# Altium footprint library AG.Connectors.PcbLib: 30 footprints (part 1 of 2)
Each footprint in its own frame and in the unit in brackets; x right, y up, seen from the top. Pads: shape width x height; smd on the part's side, far side on the other; paste and mask are expansions set on the pad; w line width, h text height; cw(c..) or ccw(c..) is an arc to the next point about the centre after c.
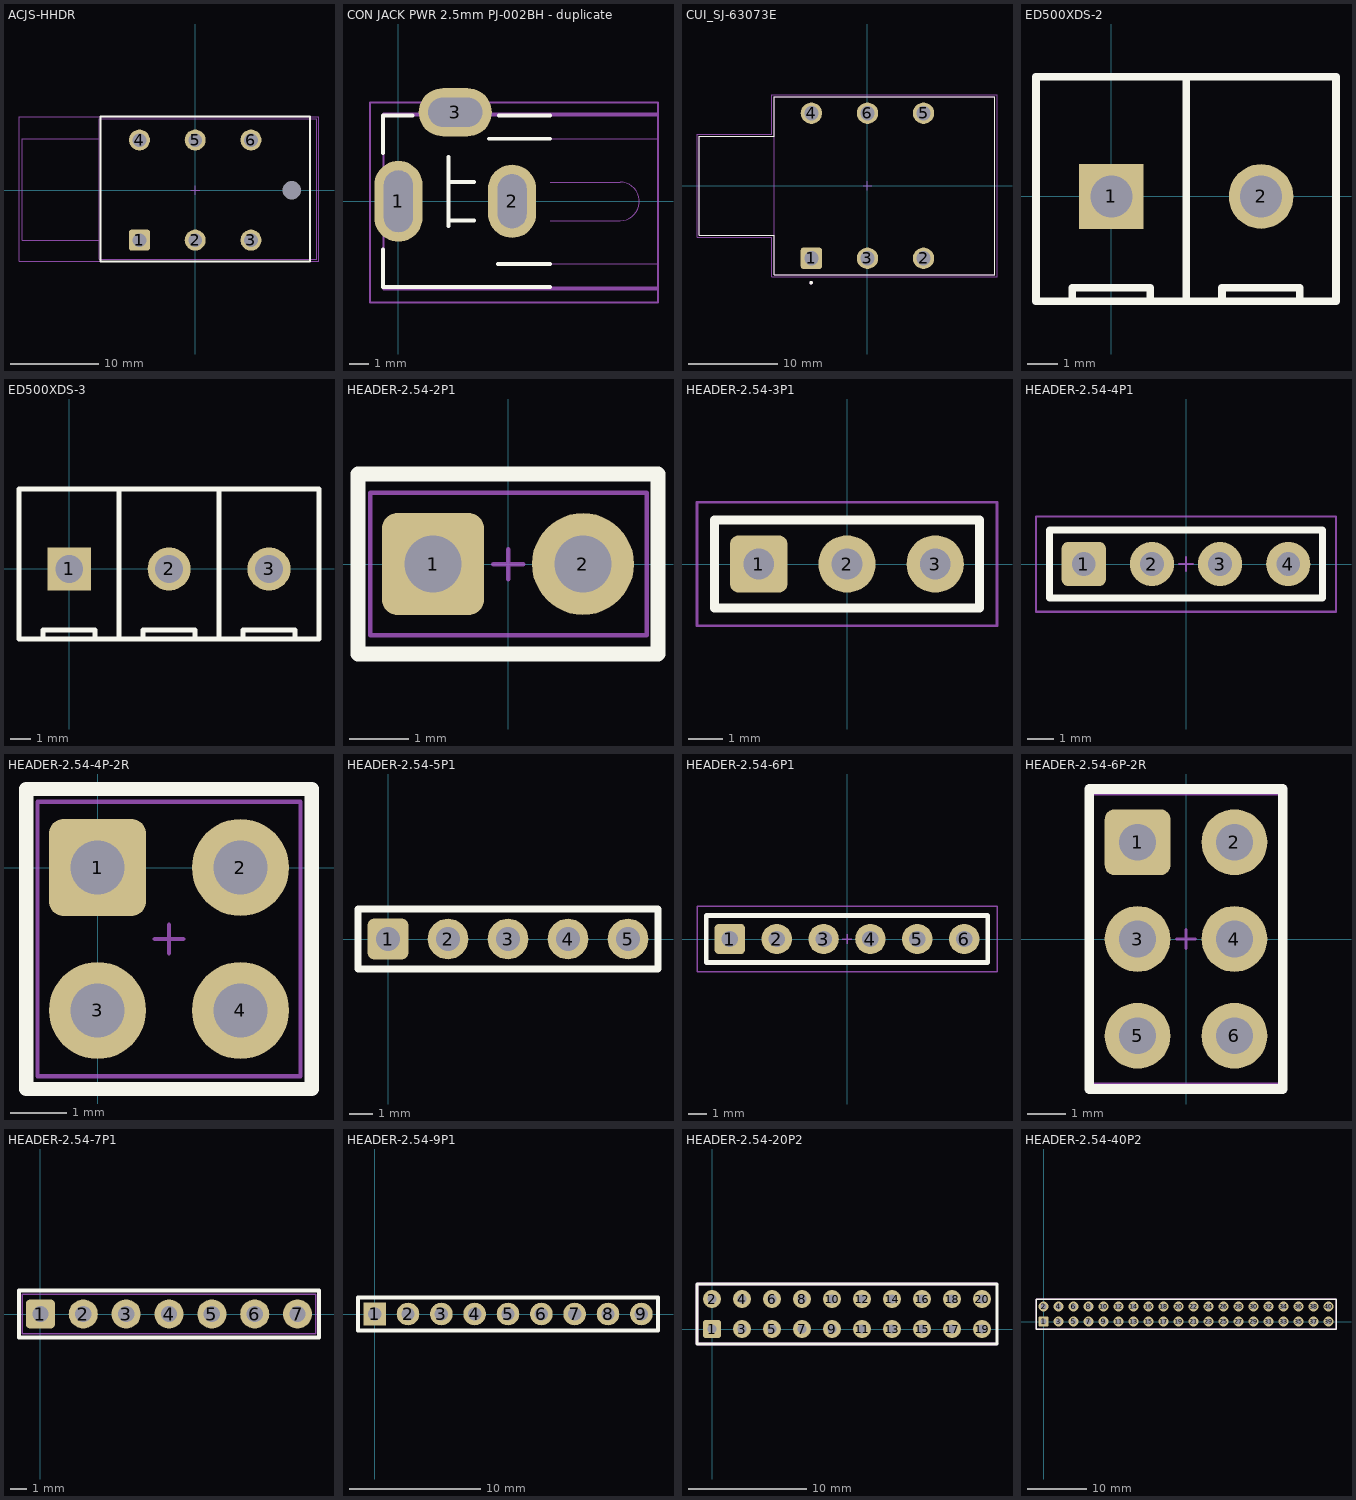
[diagram p0: the footprints below, top view; thin cyan lines are the x and y axes]

## ACJS-HHDR [mm] "1/4\" Stereo Jack PCB Receptacle"
height 12.7
pads (7):
  rrect25% 2.4x2.4 hole 1.55: 1(-6.35,-5.7)
  round 2.4 hole 1.55: 2(0,-5.7) 3(6.35,-5.7) 4(-6.35,5.7) 5(0,5.7) 6(6.35,5.7)
  round 1.524 hole 2.1 unplated: ""(10.98,0)
Top Overlay:
  lines w0.254: -10.795,-8.128 13.081,-8.128 13.081,8.382 -10.795,8.382 -10.795,-8.128
Mechanical 13:
  lines w0.127: -10.922,-5.7 -19.685,-5.7 -19.685,5.842 -10.922,5.842 ; -10.922,-7.874 13.829,-7.874 13.829,8.128 -10.922,8.128 -10.922,-7.874
Mechanical 15:
  lines w0.05: -0.5,0 0.5,0 ; 0,-0.5 0,0.5
  lines w0.076: -20.066,-8.128 -20.066,8.382 14.097,8.382 14.097,-8.128 -20.066,-8.128
3D body "ACJS-HHDR.stp": height 12.8, standoff -4.4, extent -19.671,-7.874 13.829,8.126

## CON JACK PWR 2.5mm PJ-002BH - duplicate [mil] "Connector, Power Jack, 2.5 mm x 5.1 mm, 24 V, 5 A, Right Angle, TH"
height 433.07
pads (3):
  oval 100x167.95 hole 60 slot 127.95 at 90 deg: 1(0,0)
  oval 100x152.2 hole 60 slot 112.2 at 90 deg: 2(236,0)
  oval 152.2x100 hole 60 slot 112.2 at 0 deg: 3(118,185)
Top Overlay:
  lines w8: -32,-100 -32,-178 314.96,-178 ; -32,100 -32,178 29,178 ; 104,-51.18 104,92 ; 104,-40 157,-40 ; 104,40 157,40 ; 188,130 314.96,130 ; 206.69,-130 314.96,-130 ; 209,178 314.96,178
Mechanical 11:
  lines w3.94: -31,-179 -31,178 539,178 539,-179 -31,-179
Mechanical 13:
  lines w1: 314.96,-178 539,-178 539,178 314.96,178 ; 314.96,-130 539,-130 ; 314.96,-40 460.11,-40 ccw(c460.11,0) 460.11,40 314.96,40 ; 314.96,130 539,130
  lines w3.94: -31.35,-183 -31.35,182 539,182 539,-183 -31.35,-183
Mechanical 15:
  lines w3.94: -15,0 15,0 ; 0,-15 0,15 ; -59,-210 539,-210 539,205 -59,205 -59,-210
3D body "PJ-002AH.STEP": height 435.04, standoff -135.83, extent -29.46,-177.08 537.46,193

## CUI_SJ-63073E [mm] "1/4\" Stereo Jack PCB Receptacle"
height 15.5
pads (6):
  rrect25% 2.4x2.4 hole 1.6: 1(-6.3,-8.15)
  round 2.4 hole 1.6: 2(6.3,-8.15) 3(0,-8.15) 4(-6.3,8.15) 5(6.3,8.15) 6(0,8.15)
Top Overlay:
  circle w0.2: c-6.34,-10.88 r0.1
  lines w0.127: -18.9,-5.556 -10.5,-5.556 -10.5,-10 14.3,-10 14.3,10 -10.5,10 -10.5,5.556 -18.9,5.556 -18.9,-5.556
Mechanical 13:
  circle w0.2: c-6.34,-10.88 r0.1
  lines w0.127: -10.5,-5.556 -10.5,5.556 ; -10.5,-5.556 -10.5,-5.6 -10.5,-10 14.3,-10 14.3,10 -10.5,10 -10.5,5.6 -10.5,5.556 ; -10.5,-5.556 -18.9,-5.556 -18.9,5.556 -10.5,5.556
Mechanical 15:
  lines w0.05: -0.5,0 0.5,0 ; 0,-0.5 0,0.5 ; -19.15,-5.806 -10.75,-5.806 -10.75,-10.25 14.55,-10.25 14.55,10.25 -10.75,10.25 -10.75,5.806 -19.15,5.806 -19.15,-5.806
3D body "CUI_DEVICES_SJ-63073E.step": height 15.74, standoff -3.75, extent -18.873,-10.033 14.327,9.967

## ED500XDS-2 [mil]
height 395
pads (2):
  rect 85x85 hole 55: 1(0,0)
  round 85 hole 55: 2(196.85,0)
Top Overlay:
  lines w10: -51.36,-137.16 -51.36,-120 51,-120 51,-137.8 ; 98.43,-137.8 98.43,157.16 ; 145.47,-137.17 145.47,-120 247.83,-120 247.83,-137.78 ; 295.28,-137.8 -99,-137.8 -99,157.48 295.28,157.48 295.28,-137.09

## ED500XDS-3 [mil]
height 394
pads (3):
  rect 85x85 hole 55: 1(0,0)
  round 85 hole 55: 2(196.85,0) 3(393.7,0)
Top Overlay:
  lines w10: -51.36,-137.16 -51.36,-120 51,-120 51,-137.8 ; 98.43,-137.8 98.43,157.16 ; 145.47,-137.17 145.47,-120 247.83,-120 247.83,-137.78 ; 295.28,-137.8 295.28,157.48 ; 342.32,-137.17 342.32,-120 444.68,-120 444.68,-137.78 ; 492.13,-137.8 -99,-137.8 -99,157.48 492.13,157.48 492.13,-137.09
3D body: height 395, standoff 1, extent -99,-137.8 492.13,157.48

## HEADER-2.54-2P1 [mil] "Pin Header Single Row 2 Positions Pitch 2.54 mm"
pads (2):
  rrect30% 68x68 hole 38: 1(-50,0)
  round 68 hole 38: 2(50,0)
Top Overlay:
  lines w10: -100,-60 -100,60 100,60 100,-60 -100,-60
Mechanical 13:
  lines w3: -91.79,-47.43 92.46,-47.43 92.46,47.45 -91.79,47.45 -91.79,-47.43
Mechanical 15:
  lines w2: -100,-60 -100,60 100,60 100,-60 -100,-60
  lines w3: -10,0 10,0 ; 0,-10 0,10
3D body "AMPH_77311-y18-02_asm.stp": height 330.42, standoff -122.33, extent -91.79,-47.43 92.46,47.45

## HEADER-2.54-3P1 [mil] "Pin Header Single Row 3 Positions Pitch 2.54 mm"
pads (3):
  rrect30% 65x65 hole 35: 1(-100,0)
  round 65 hole 35: 2(0,0) 3(100,0)
Top Overlay:
  lines w10: -149.99,-49.99 150.01,-49.99 150.01,50.01 -149.99,50.01 -149.99,-49.99
Mechanical 13:
  lines w3: -149.99,-49.99 150.01,-49.99 150.01,50.01 -149.99,50.01 -149.99,-49.99
Mechanical 15:
  lines w3: -170,-70 170,-70 170,70 -170,70 -170,-70
3D body "1x3 TH Pitch 2.54mm.STEP": height 362.2, standoff -137.8, extent -149.99,-49.99 150.01,50.01

## HEADER-2.54-4P1 [mil] "Pin Header Single Row 4 Positions Pitch 2.54 mm"
pads (4):
  rrect30% 65x65 hole 35: 1(-150,0)
  round 65 hole 35: 2(-50,0) 3(50,0) 4(150,0)
Top Overlay:
  lines w10: -200,-50 -200,50 200,50 200,-50 -200,-50
Mechanical 13:
  lines w3: -199.99,-49.99 -199.99,50.01 200.01,50.01 200.01,-49.99 -199.99,-49.99
Mechanical 15:
  lines w3: -10,0 10,0 ; 0,-10 0,10 ; -220,-70 -220,70 220,70 220,-70 -220,-70
3D body "User Library-1x4 TH Pitch 2_54mm.STEP": height 362.2, standoff -137.8, extent -199.99,-49.99 200.01,50.01

## HEADER-2.54-4P-2R [mil] "Rectangular Header Male Pins Double Row 4 Positions Pitch 2.54 mm"
height 276
pads (4):
  rrect30% 68x68 hole 38: 1(0,0)
  round 68 hole 38: 2(100,0) 3(0,-100) 4(100,-100)
Top Overlay:
  lines w10: -50,-155 -50,-150 -50,55 150,55 150,-155 -50,-155
Mechanical 13:
  lines w3: -41.99,-145.99 142.01,-145.99 142.01,46.01 -41.99,46.01 -41.99,-145.99
Mechanical 15:
  lines w3: 40,-50 60,-50 ; 50,-60 50,-40 ; -50,-155 150,-155 150,55 -50,55 -50,-155
3D body "104352-2.stp": height 322, standoff -118, extent -41.99,-145.99 142.01,46.01

## HEADER-2.54-5P1 [mil] "Pin Header Single Row 5 Positions Pitch 2.54 mm"
pads (5):
  rrect30% 68x68 hole 40: 1(0,0)
  round 68 hole 40: 2(100,0) 3(200,0) 4(300,0) 5(400,0)
Top Overlay:
  lines w12: 30,-50 -50,-50 ; -50,-50 -50,50 450,50 450,-50 -50,-50

## HEADER-2.54-6P1 [mil] "Pin Header Single Row 6 Positions Pitch 2.54 mm"
pads (6):
  rrect30% 65x65 hole 35: 1(-250,0)
  round 65 hole 35: 2(-150,0) 3(-50,0) 4(50,0) 5(150,0) 6(250,0)
Top Overlay:
  lines w10: -300,-50 300,-50 300,50 -300,50 -300,-50
Mechanical 13:
  lines w3: -300,-50 300,-50 300,50 -300,50 -300,-50
Mechanical 15:
  lines w3: -10,0 10,0 ; 0,-10 0,10 ; -320,-70 320,-70 320,70 -320,70 -320,-70
3D body "User Library-1x6 TH Pitch 2_54mm.STEP": height 362.2, standoff -137.8, extent -299.99,-49.99 300.01,50.01

## HEADER-2.54-6P-2R [mil] "Rectangular Header Male Pins 4 Positions 2 Rows Pitch 2.54 mm"
height 276
pads (6):
  rrect30% 68x68 hole 38: 1(-50,100)
  round 68 hole 38: 2(50,100) 3(-50,0) 4(50,0) 5(-50,-100) 6(50,-100)
Top Overlay:
  lines w10: -100,-155 -100,-50 -100,155 100,155 100,-155 -100,-155
Mechanical 13:
  lines w3: -100,-149.99 -100,150.01 100,150.01 100,-149.99 -100,-149.99
Mechanical 15:
  lines w3: -10,0 10,0 ; 0,-10 0,10 ; -100,-155 100,-155 100,155 -100,155 -100,-155
3D body "TSW-103-07-F-D.stp": height 330, standoff -100, extent -100,-149.99 100,150.01

## HEADER-2.54-7P1 [mil] "Pin Header Single Row 7 Positions Pitch 2.54 mm"
pads (7):
  rrect30% 68x68 hole 38: 1(0,0)
  round 68 hole 38: 2(100,0) 3(200,0) 4(300,0) 5(400,0) 6(500,0) 7(600,0)
Top Overlay:
  lines w10: -50,-55 650,-55 650,55 -50,55 -50,-55
Mechanical 13:
  lines w3: -41.99,-45.99 642.01,-45.99 642.01,46.01 -41.99,46.01 -41.99,-45.99
Mechanical 15:
  lines w3: 290,0 310,0 ; 300,-10 300,10 ; -50,-55 -50,55 650,55 650,-55 -50,-55
3D body "5-146282-7.STEP": height 321, standoff -119, extent -41.99,-45.99 642.01,46.01

## HEADER-2.54-9P1 [mil] "Pin Header Single Row 9 Positions Pitch 2.54 mm"
pads (9):
  rect 68x68 hole 40: 1(0,0)
  round 68 hole 40: 2(100,0) 3(200,0) 4(300,0) 5(400,0) 6(500,0) 7(600,0) 8(700,0) 9(800,0)
Top Overlay:
  lines w12: 30,-50 -50,-50 ; -50,-50 -50,50 850,50 850,-50 -50,-50

## HEADER-2.54-20P2 [mil] "Pin Header 2 Rows 20 Positions Pitch 2.54 mm"
height 336.22
pads (20):
  rrect30% 60x60 hole 30: 1(0,0)
  round 60 hole 30: 2(0,100) 3(100,0) 4(100,100) 5(200,0) 6(200,100) 7(300,0) 8(300,100) 9(400,0) 10(400,100) 11(500,0) 12(500,100) 13(600,0) 14(600,100) 15(700,0) 16(700,100) 17(800,0) 18(800,100) 19(900,0) 20(900,100)
Top Overlay:
  lines w10: -50,-50 -50,150 950,150 950,-50 -50,-50
Mechanical 15:
  lines w10: 950,-50 -50,-50 -50,150 950,150

## HEADER-2.54-40P2 [mil] "Pin Header 2 Rows 40 Positions Pitch 2.54 mm"
height 336.22
pads (40):
  rrect30% 68x68 hole 38: 1(0,0)
  round 68 hole 38: 2(0,100) 3(100,0) 4(100,100) 5(200,0) 6(200,100) 7(300,0) 8(300,100) 9(400,0) 10(400,100) 11(500,0) 12(500,100) 13(600,0) 14(600,100) 15(700,0) 16(700,100) 17(800,0) 18(800,100) 19(900,0) 20(900,100) 21(1000,0) 22(1000,100) 23(1100,0) 24(1100,100) 25(1200,0) 26(1200,100) 27(1300,0) 28(1300,100) 29(1400,0) 30(1400,100) 31(1500,0) 32(1500,100) 33(1600,0) 34(1600,100) 35(1700,0) 36(1700,100) 37(1800,0) 38(1800,100) 39(1900,0) 40(1900,100)
Top Overlay:
  lines w10: -50,-50 -50,150 1950,150 1950,-50 -50,-50
Mechanical 15:
  lines w10: -50,-50 -50,150 1950,150 1950,-50 -50,-50